# Altium footprint library PCB - LEADLESS - SON - TI WSON-12 DSS012B.PcbLib: 1 footprints
Each footprint in its own frame and in the unit in brackets; x right, y up, seen from the top. Pads: shape width x height; smd on the part's side, far side on the other; paste and mask are expansions set on the pad; w line width, h text height; cw(c..) or ccw(c..) is an arc to the next point about the centre after c.
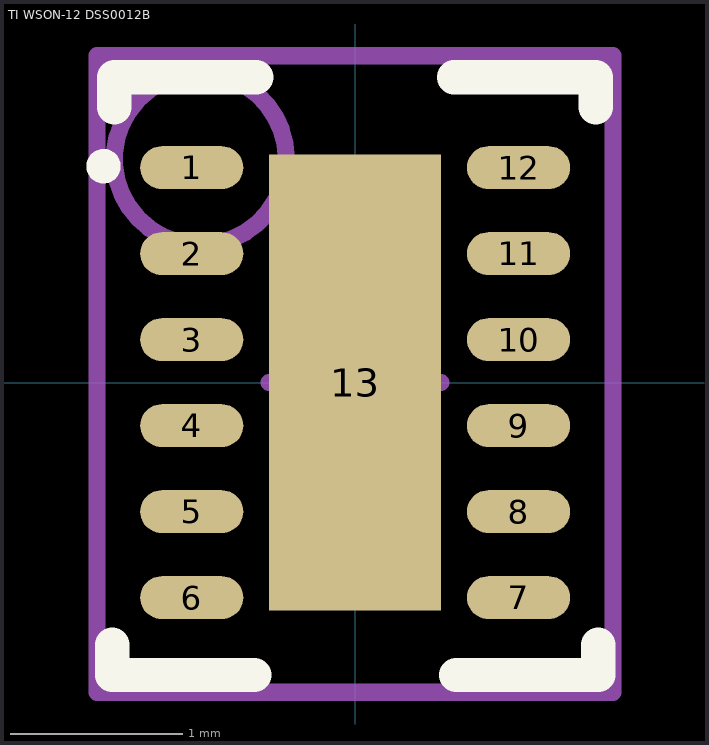
[diagram p0: the footprint, top view; thin cyan lines are the x and y axes]

## TI WSON-12 DSS0012B [mm] "WSON, 12-Leads, Body 2.10x3.10mm, Pitch 0.50mm, Thermal Pad 1.1x2.75mm"
height 0.8
pads (13):
  oval 0.6x0.25 smd: 1(-0.95,1.25) 2(-0.95,0.75) 3(-0.95,0.25) 4(-0.95,-0.25) 5(-0.95,-0.75) 6(-0.95,-1.25) 7(0.95,-1.25) 8(0.95,-0.75) 9(0.95,-0.25) 10(0.95,0.25) 11(0.95,0.75) 12(0.95,1.25)
  rect 1x2.65 smd: 13(0,0)
Top Overlay:
  circle w0.1: c-1.463,1.258 r0.05
  lines w0.2: -1.413,-1.525 -1.413,-1.7 -0.588,-1.7 ; -1.4,1.6 -1.4,1.775 -0.575,1.775 ; 0.575,1.775 1.4,1.775 1.4,1.6 ; 0.587,-1.7 1.412,-1.7 1.412,-1.525
Top Component Center:
  lines w0.1: -0.5,0 0.5,0 ; 0,-0.5 0,0.5
Top Courtyard:
  lines w0.05: -1.5,-1.8 1.5,-1.8 1.5,1.9 -1.5,1.9 -1.5,-1.8
Top Assembly:
  circle w0.1: c-0.9,1.3 r0.5
  lines w0.1: -1.5,-1.8 1.5,-1.8 1.5,1.9 -1.5,1.9 -1.5,-1.8
3D body "LM27762DSSR.STEP": height 0.8, standoff 0, extent -1,-1.5 1,1.5